# Altium footprint library STM32MISC.PcbLib: 40 footprints (part 1 of 3)
Each footprint in its own frame and in the unit in brackets; x right, y up, seen from the top. Pads: shape width x height; smd on the part's side, far side on the other; paste and mask are expansions set on the pad; w line width, h text height; cw(c..) or ccw(c..) is an arc to the next point about the centre after c.
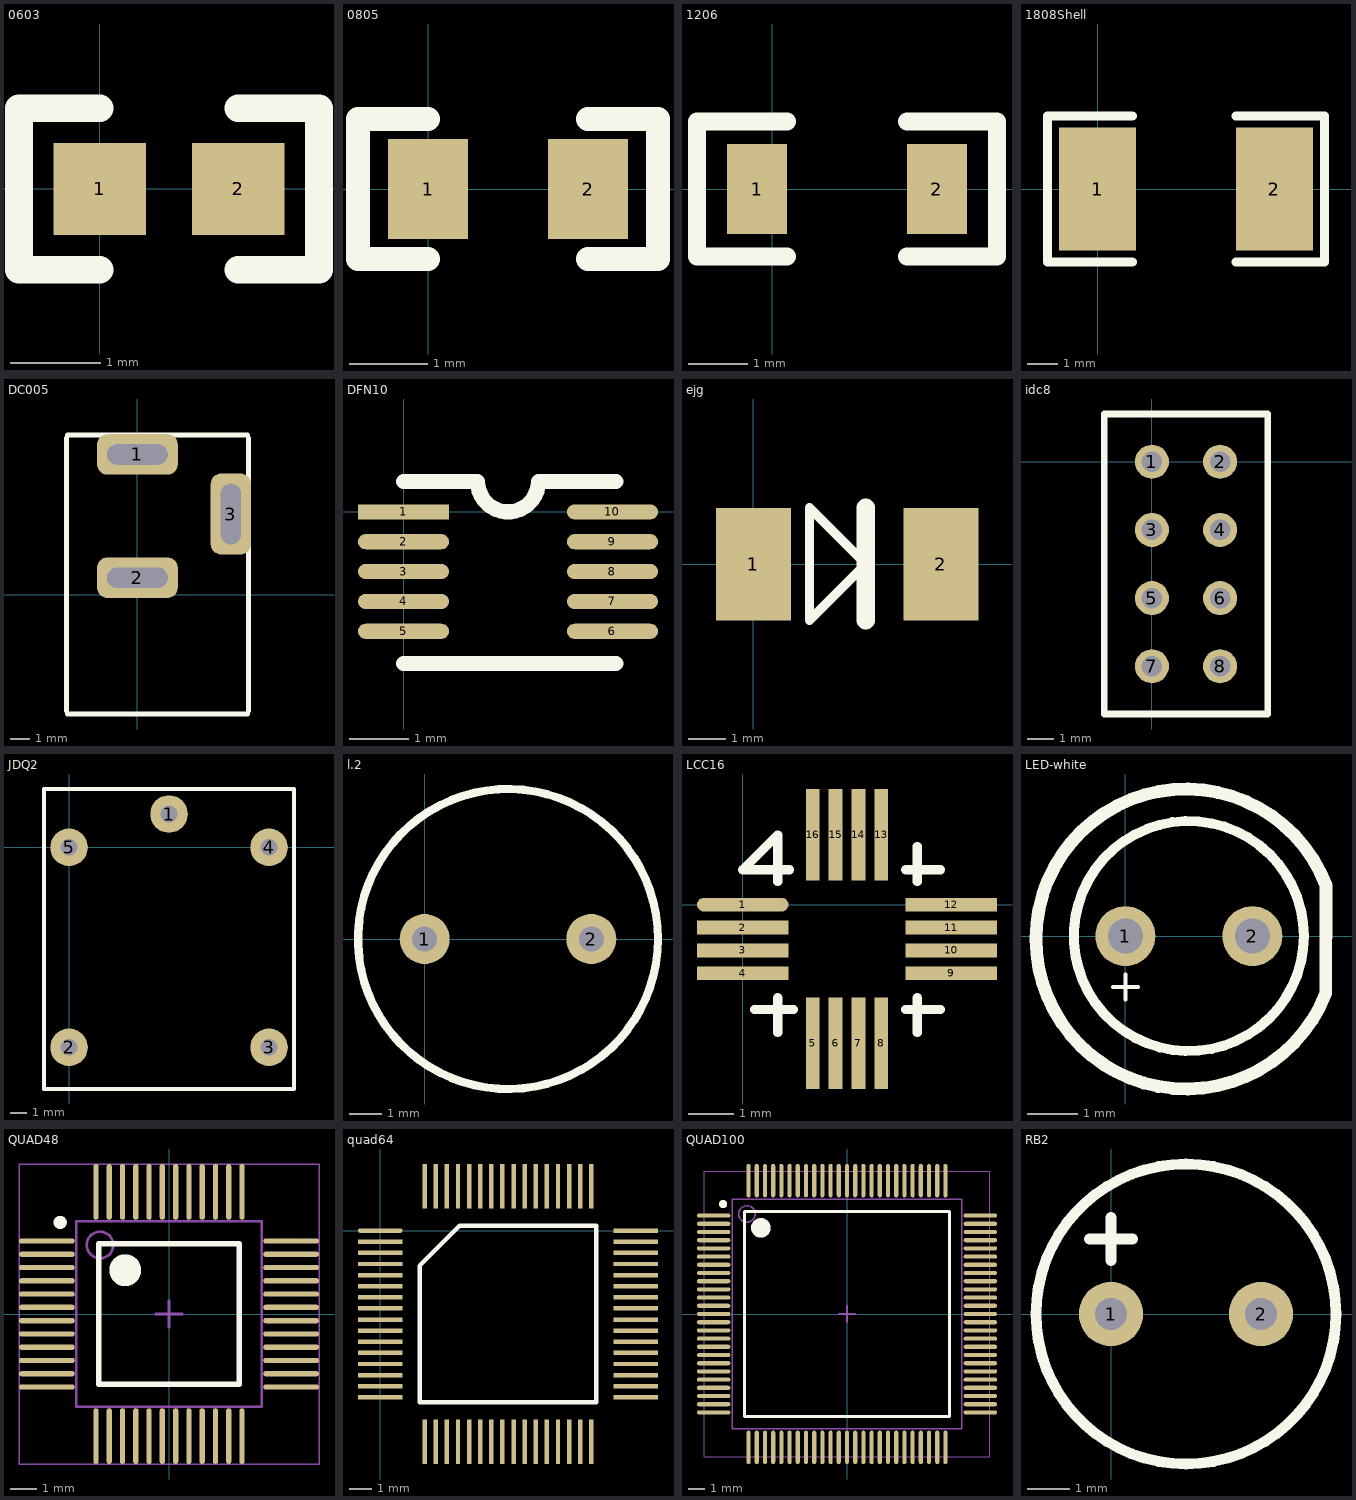
[diagram p0: the footprints below, top view; thin cyan lines are the x and y axes]

## 0603 [mil]
pads (2):
  rect 40x40 smd: 1(0,0) 2(60,0)
TopOverlay:
  lines w12: 0,-35 -35,-35 -35,35 0,35 ; 60,-35 95,-35 95,35 60,35

## 0805 [mil]
pads (2):
  rect 40x50 smd: 1(0,0) 2(80,0)
TopOverlay:
  lines w12: 0,-35 -35,-35 -35,35 0,35 ; 80,-35 115,-35 115,35 80,35

## 1206 [mil]
pads (2):
  rect 40x60 smd: 1(-10,0) 2(110,0)
TopOverlay:
  lines w12: 10,-45 -50,-45 -50,45 10,45 ; 90,-45 150,-45 150,45 90,45

## 1808Shell [mil]
pads (2):
  rect 100x160 smd: 1(0,0) 2(230,0)
TopOverlay:
  lines w12: 45,-95 -65,-95 -65,95 45,95 ; 180,-95 295,-95 295,95 180,95

## DC005 [mil]
pads (3):
  rrect50% 160x80 hole 40 slot 120 at 0 deg: 1(0,278) 2(0,33.91)
  rrect50% 80x160 hole 40 slot 120 at 90 deg: 3(185.04,159.89)
TopOverlay:
  lines w10: -140,-230 -140,310 ; -138,-236 218,-236 ; -138,316 218,316 ; 220,-230 220,310

## DFN10 [mil]
pads (10):
  rect 60x10 smd: 1(0,0)
  oval 60x10 smd: 2(0,-19.68) 3(0,-39.37) 4(0,-59.05) 5(0,-78.74) 6(137.79,-78.74) 7(137.79,-59.05) 8(137.79,-39.37) 9(137.79,-19.68) 10(137.79,0)
TopOverlay:
  lines w10: 0,-100 140,-100 ; 0,20 48.9,20 ccw(c68.9,20) 88.9,20 140,20

## ejg [mil]
pads (2):
  rect 80x120 smd: 1(0,0) 2(200,0)
TopOverlay:
  lines w10: 60,-60 60,60 120,0 60,-60
  lines w20: 120,-60 120,60

## idc8 [mil]
pads (8):
  round 50 hole 30: 1(0,0) 2(100,0) 3(0,-100) 4(100,-100) 5(0,-200) 6(100,-200) 7(0,-300) 8(100,-300)
TopOverlay:
  lines w10: -70,-370 170,-370 170,70 -70,70 -70,-370

## JDQ2 [mil]
pads (5):
  round 90 hole 40: 1(240,80) 2(0,-480) 3(480,-480) 4(480,0) 5(0,0)
TopOverlay:
  lines w10: -60,-580 -60,140 540,140 540,-580 -60,-580

## l.2 [mil]
pads (2):
  round 60 hole 30: 1(0,0) 2(200,0)
TopOverlay:
  circle w10: c100,0 r180

## LCC16 [mm]
pads (16):
  oval 2x0.3 smd: 1(0,0)
  rect 2x0.3 smd: 2(0,-0.5) 3(0,-1) 4(0,-1.5) 9(4.55,-1.5) 10(4.55,-1) 11(4.55,-0.5) 12(4.55,0)
  rect 0.3x2 smd: 5(1.525,-3.025) 6(2.025,-3.025) 7(2.525,-3.025) 8(3.025,-3.025) 13(3.025,1.525) 14(2.525,1.525) 15(2.025,1.525) 16(1.525,1.525)
TopOverlay:
  lines w0.2: 0,0.762 0.762,1.524 0.762,0.508 ; 0.045,0.762 1.016,0.762 ; 0.254,-2.286 1.109,-2.286 ; 0.762,-2.794 0.762,-2.032 ; 3.556,-2.286 4.318,-2.286 ; 3.556,0.762 4.318,0.762 ; 3.81,-2.794 3.81,-2.032 ; 3.81,0.508 3.81,1.27

## LED-white [mm]
height 5
pads (2):
  round 1.2 hole 0.7: 1(0,0) 2(2.54,0)
TopOverlay:
  circle w0.2: c1.27,0 r2.3
  lines w0.076: -0.254,-1.016 0.254,-1.016 ; 0,-1.27 0,-0.762
  lines w0.254: 4.01,-1.143 cw(c1.212,-0.059) 4.013,1.016 4.01,-1.143
3D body: height 5, standoff 1.5, extent -1.041,-2.311 3.581,2.311
3D body: height 1.5, standoff 0.5, extent -1.797,-3.068 4.015,2.951

## QUAD48 [mm] "QFP, 48-Leads, Body 7x7mm, Pitch 0.5mm, IPC Low Density"
height 1.6
pads (48):
  oval 2.1x0.2 smd: 1(-4.6,2.75) 2(-4.6,2.25) 3(-4.6,1.75) 4(-4.6,1.25) 5(-4.6,0.75) 6(-4.6,0.25) 7(-4.6,-0.25) 8(-4.6,-0.75) 9(-4.6,-1.25) 10(-4.6,-1.75) 11(-4.6,-2.25) 12(-4.6,-2.75) 25(4.6,-2.75) 26(4.6,-2.25) 27(4.6,-1.75) 28(4.6,-1.25) 29(4.6,-0.75) 30(4.6,-0.25) 31(4.6,0.25) 32(4.6,0.75) 33(4.6,1.25) 34(4.6,1.75) 35(4.6,2.25) 36(4.6,2.75)
  oval 0.2x2.1 smd: 13(-2.75,-4.6) 14(-2.25,-4.6) 15(-1.75,-4.6) 16(-1.25,-4.6) 17(-0.75,-4.6) 18(-0.25,-4.6) 19(0.25,-4.6) 20(0.75,-4.6) 21(1.25,-4.6) 22(1.75,-4.6) 23(2.25,-4.6) 24(2.75,-4.6) 37(2.75,4.6) 38(2.25,4.6) 39(1.75,4.6) 40(1.25,4.6) 41(0.75,4.6) 42(0.25,4.6) 43(-0.25,4.6) 44(-0.75,4.6) 45(-1.25,4.6) 46(-1.75,4.6) 47(-2.25,4.6) 48(-2.75,4.6)
TopOverlay:
  circle w0.6: c-1.65,1.65 r0.3
  circle w0.25: c-4.1,3.45 r0.125
  lines w0.2: -2.65,-2.65 2.65,-2.65 2.65,2.65 -2.65,2.65 -2.65,-2.65
Mechanical13:
  circle w0.1: c-2.6,2.6 r0.5
  lines w0.1: -3.5,-3.5 3.5,-3.5 3.5,3.5 -3.5,3.5 -3.5,-3.5
Mechanical15:
  lines w0.05: -5.65,-5.65 5.65,-5.65 5.65,5.65 -5.65,5.65 -5.65,-5.65
  lines w0.1: -0.5,0 0.5,0 ; 0,-0.5 0,0.5
3D body: height 1.6, standoff 0.05, extent -3.5,-3.5 3.5,3.5

## quad64 [mm]
pads (64):
  oval 2x0.2 smd: 1(0,0)
  rect 2x0.2 smd: 2(0,-0.5) 3(0,-1) 4(0,-1.5) 5(0,-2) 6(0,-2.5) 7(0,-3) 8(0,-3.5) 9(0,-4) 10(0,-4.5) 11(0,-5) 12(0,-5.5) 13(0,-6) 14(0,-6.5) 15(0,-7) 16(0,-7.5) 33(11.5,-7.5) 34(11.5,-7) 35(11.5,-6.5) 36(11.5,-6) 37(11.5,-5.5) 38(11.5,-5) 39(11.5,-4.5) 40(11.5,-4) 41(11.5,-3.5) 42(11.5,-3) 43(11.5,-2.5) 44(11.5,-2) 45(11.5,-1.5) 46(11.5,-1) 47(11.5,-0.5) 48(11.5,0)
  rect 0.2x2 smd: 17(2,-9.5) 18(2.5,-9.5) 19(3,-9.5) 20(3.5,-9.5) 21(4,-9.5) 22(4.5,-9.5) 23(5,-9.5) 24(5.5,-9.5) 25(6,-9.5) 26(6.5,-9.5) 27(7,-9.5) 28(7.5,-9.5) 29(8,-9.5) 30(8.5,-9.5) 31(9,-9.5) 32(9.5,-9.5) 49(9.5,2) 50(9,2) 51(8.5,2) 52(8,2) 53(7.5,2) 54(7,2) 55(6.5,2) 56(6,2) 57(5.5,2) 58(5,2) 59(4.5,2) 60(4,2) 61(3.5,2) 62(3,2) 63(2.5,2) 64(2,2)
TopOverlay:
  lines w0.2: 1.785,-7.715 9.715,-7.715 9.715,0.215 3.57,0.215 1.785,-1.57 1.785,-7.715

## QUAD100 [mil] "Thin QFP, 100-Leads, Body 14x14mm, Pitch 0.5mm, IPC Medium Density"
height 62.99
pads (100):
  oval 80x10 smd: 1(-320,236.22) 2(-320,216.54) 3(-320,196.85) 4(-320,177.17) 5(-320,157.48) 6(-320,137.8) 7(-320,118.11) 8(-320,98.43) 9(-320,78.74) 10(-320,59.06) 11(-320,39.37) 12(-320,19.68) 13(-320,0) 14(-320,-19.68) 15(-320,-39.37) 16(-320,-59.06) 17(-320,-78.74) 18(-320,-98.43) 19(-320,-118.11) 20(-320,-137.8) 21(-320,-157.48) 22(-320,-177.17) 23(-320,-196.85) 24(-320,-216.54) 25(-320,-236.22) 51(320,-236.22) 52(320,-216.54) 53(320,-196.85) 54(320,-177.17) 55(320,-157.48) 56(320,-137.8) 57(320,-118.11) 58(320,-98.43) 59(320,-78.74) 60(320,-59.06) 61(320,-39.37) 62(320,-19.68) 63(320,0) 64(320,19.68) 65(320,39.37) 66(320,59.06) 67(320,78.74) 68(320,98.43) 69(320,118.11) 70(320,137.8) 71(320,157.48) 72(320,177.17) 73(320,196.85) 74(320,216.54) 75(320,236.22)
  oval 10x80 smd: 26(-236.22,-320) 27(-216.54,-320) 28(-196.85,-320) 29(-177.17,-320) 30(-157.48,-320) 31(-137.8,-320) 32(-118.11,-320) 33(-98.43,-320) 34(-78.74,-320) 35(-59.06,-320) 36(-39.37,-320) 37(-19.68,-320) 38(0,-320) 39(19.68,-320) 40(39.37,-320) 41(59.06,-320) 42(78.74,-320) 43(98.43,-320) 44(118.11,-320) 45(137.8,-320) 46(157.48,-320) 47(177.17,-320) 48(196.85,-320) 49(216.54,-320) 50(236.22,-320) 76(236.22,320) 77(216.54,320) 78(196.85,320) 79(177.17,320) 80(157.48,320) 81(137.8,320) 82(118.11,320) 83(98.43,320) 84(78.74,320) 85(59.06,320) 86(39.37,320) 87(19.68,320) 88(0,320) 89(-19.68,320) 90(-39.37,320) 91(-59.06,320) 92(-78.74,320) 93(-98.43,320) 94(-118.11,320) 95(-137.8,320) 96(-157.48,320) 97(-177.17,320) 98(-196.85,320) 99(-216.54,320) 100(-236.22,320)
TopOverlay:
  circle w9.84: c-297.24,263.78 r4.92
  circle w23.62: c-206.69,206.69 r11.81
  lines w7.87: -246.06,-246.06 -246.06,246.06 246.06,246.06 246.06,-246.06 -246.06,-246.06
Mechanical13:
  circle w3.94: c-240.16,240.16 r19.68
  lines w3.94: -275.59,-275.59 -275.59,275.59 275.59,275.59 275.59,-275.59 -275.59,-275.59
Mechanical15:
  lines w1.97: -342.52,-342.52 -342.52,342.52 342.52,342.52 342.52,-342.52 -342.52,-342.52
  lines w3.94: -19.68,0 19.68,0 ; 0,-19.68 0,19.68
3D body: height 62.99, standoff 1.97, extent -275.59,-275.59 275.59,275.59

## RB2 [mil]
pads (2):
  round 60 hole 30: 1(0,0) 2(140,0)
TopOverlay:
  circle w10: c70,0 r140
  lines w10: -20,70 20,70 ; 0,50 0,90